# Altium schematic symbol library XC6206P332MR.SCHLIB: 1 symbol
Pins are listed as number, name and electrical type; pins without a type are passive.

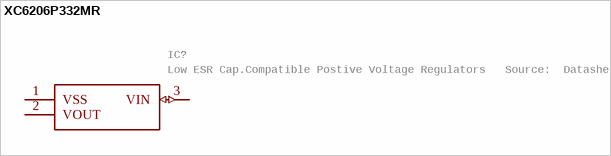
[diagram p0: symbol XC6206P332MR]

## XC6206P332MR
designator IC?, comment Low ESR Cap.Compatible Postive Voltage Regulators   Source:  Datasheet
Manufacturer_Name: Torex; GateName_1: G$1; SymbolName_1: XC6206P332MR; LibraryName: XC6206P332MR; DeviceSetName: XC6206P332MR; Package: SOT95P280X130-3N; Manufacturer_Part_Number: XC6206P332MR; Height: 1.3mm
footprint SOT95P280X130-3N
pins: 1 VSS, 2 VOUT, 3 VIN (io)